# Altium footprint library DIP28-ATMEGA328-METRIC.PcbLib: 1 footprints
Each footprint in its own frame and in the unit in brackets; x right, y up, seen from the top. Pads: shape width x height; smd on the part's side, far side on the other; paste and mask are expansions set on the pad; w line width, h text height; cw(c..) or ccw(c..) is an arc to the next point about the centre after c.
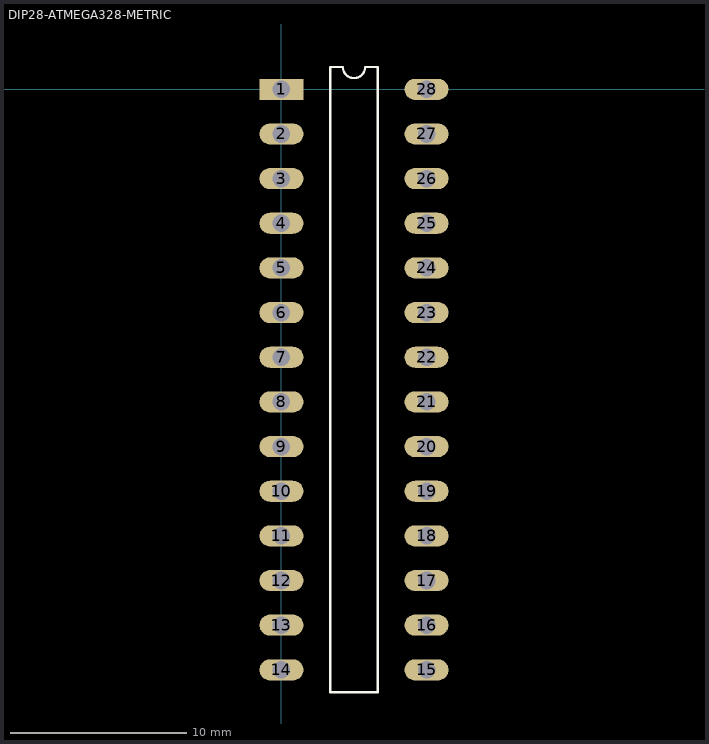
[diagram p0: the footprint, top view; thin cyan lines are the x and y axes]

## DIP28-ATMEGA328-METRIC [mm]
pads (28):
  rect 2.5x1.2 hole 1: 1(0,0)
  oval 2.5x1.2 hole 1: 2(0,-2.54) 3(0,-5.08) 4(0,-7.62) 5(0,-10.16) 6(0,-12.7) 7(0,-15.24) 8(0,-17.78) 9(0,-20.32) 10(0,-22.86) 11(0,-25.4) 12(0,-27.94) 13(0,-30.48) 14(0,-33.02) 15(8.255,-33.02) 16(8.255,-30.48) 17(8.255,-27.94) 18(8.255,-25.4) 19(8.255,-22.86) 20(8.255,-20.32) 21(8.255,-17.78) 22(8.255,-15.24) 23(8.255,-12.7) 24(8.255,-10.16) 25(8.255,-7.62) 26(8.255,-5.08) 27(8.255,-2.54) 28(8.255,0)
Top Overlay:
  lines w0.127: 2.774,-34.29 2.774,-25.4 2.774,-7.62 2.774,1.27 3.492,1.27 ccw(c4.127,1.27) 4.763,1.27 5.481,1.27 5.481,-34.29 2.774,-34.29